# Altium schematic symbol library GyroscopeI2C.SchLib: 1 symbol
Pins are listed as number, name and electrical type; pins without a type are passive.

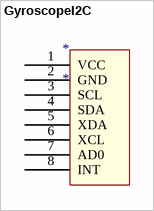
[diagram p0: symbol GyroscopeI2C]

## GyroscopeI2C
designator *
footprint GyroscopeI2C
pins: 1 VCC (power), 2 GND (power), 3 SCL (power), 4 SDA (power), 5 XDA (power), 6 XCL (power), 7 AD0 (power), 8 INT (power)